# Altium footprint library Pin Connector.PcbLib: 7 footprints
Each footprint in its own frame and in the unit in brackets; x right, y up, seen from the top. Pads: shape width x height; smd on the part's side, far side on the other; paste and mask are expansions set on the pad; w line width, h text height; cw(c..) or ccw(c..) is an arc to the next point about the centre after c.
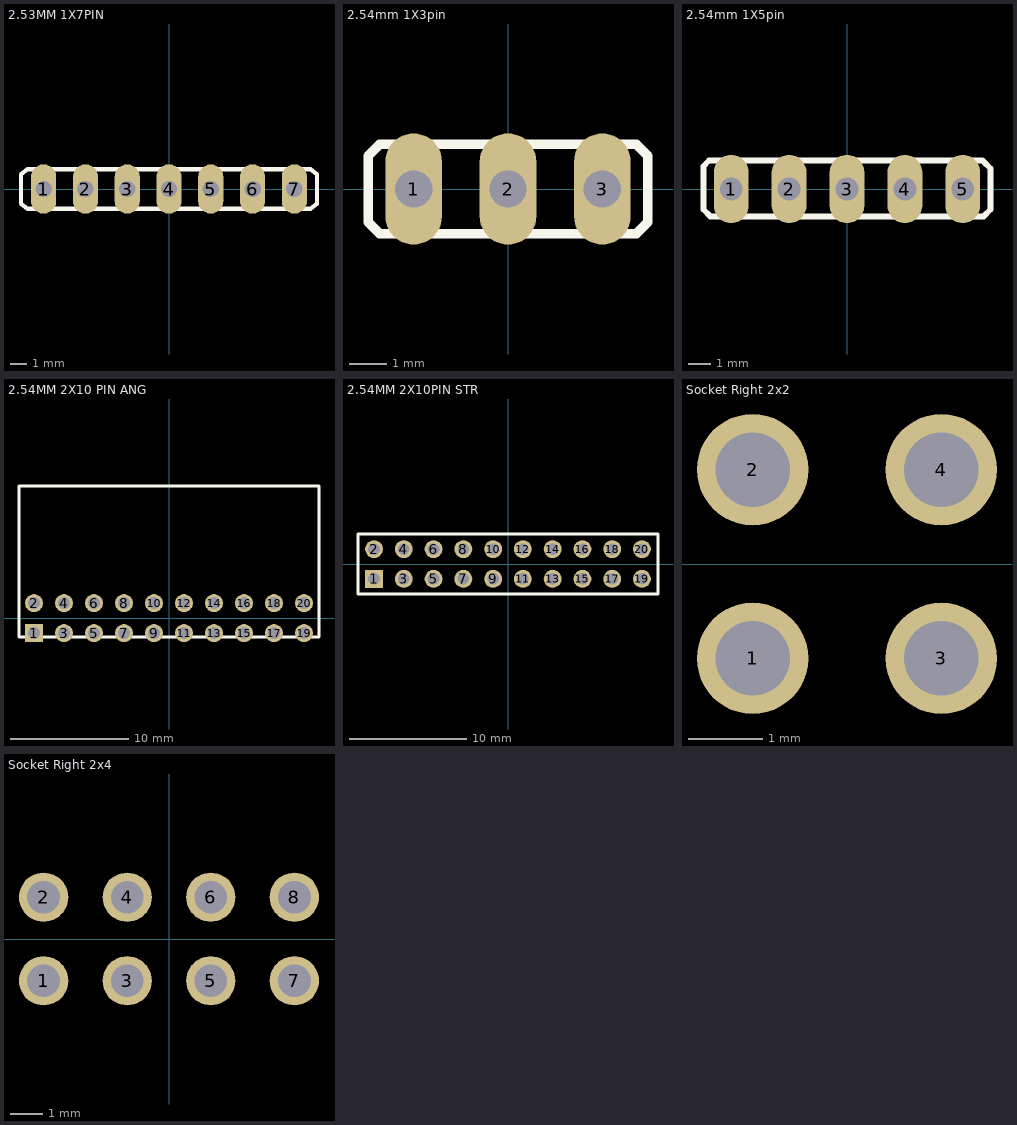
[diagram p0: the footprints below, top view; thin cyan lines are the x and y axes]

## 2.53MM 1X7PIN [mm]
pads (7):
  oval 1.524x3 hole 1: 1(-7.62,0) 2(-5.08,0) 3(-2.54,0) 4(0,0) 5(2.54,0) 6(5.08,0) 7(7.62,0)
Top Overlay:
  lines w0.254: -9,-0.9 -8.6,-1.2 8.6,-1.2 9,-0.9 9,0.9 8.6,1.2 -8.6,1.2 -9,0.9 -9,-0.9
3D body: height 8.38, standoff -2.54, extent -8.89,-1.275 8.89,1.265

## 2.54mm 1X3pin [mm]
pads (3):
  oval 1.524x3 hole 1: 1(-2.54,0) 2(0,0) 3(2.54,0)
Top Overlay:
  lines w0.254: -3.76,-0.9 -3.46,-1.2 3.46,-1.2 3.76,-0.9 3.76,0.9 3.46,1.2 -3.46,1.2 -3.76,0.9 -3.76,-0.9
3D body: height 8.38, standoff -2.54, extent -3.81,-1.3 3.81,1.24

## 2.54mm 1X5pin [mm]
pads (5):
  oval 1.524x3 hole 1: 1(-5.08,0) 2(-2.54,0) 3(0,0) 4(2.54,0) 5(5.08,0)
Top Overlay:
  lines w0.254: 5.95,1.25 -6.05,1.25 -6.3,1 -6.3,-0.9 -6,-1.2 6,-1.2 6.3,-0.9 6.3,0.9 6,1.2
3D body: height 8.38, standoff -2.54, extent -6.35,-1.27 6.35,1.27

## 2.54MM 2X10 PIN ANG [mil] "2.54MM 2X10 Pin"
pads (20):
  rect 60x60 hole 39.37: 1(-450,-50)
  round 60 hole 39.37: 2(-450,50) 3(-350,-50) 4(-350,50) 5(-250,-50) 6(-250,50) 7(-150,-50) 8(-150,50) 9(-50,-50) 10(-50,50) 11(50,-50) 12(50,50) 13(150,-50) 14(150,50) 15(250,-50) 16(250,50) 17(350,-50) 18(350,50) 19(450,-50) 20(450,50)
Top Overlay:
  lines w10: -500,-62.99 500,-62.99 500,440.94 -500,440.94 -500,-62.99
3D body: height 220.67, standoff -89.33, extent -500,-62.99 500,439.51

## 2.54MM 2X10PIN STR [mil]
pads (20):
  rect 60x60 hole 39.37: 1(-450,-50)
  round 60 hole 39.37: 2(-450,50) 3(-350,-50) 4(-350,50) 5(-250,-50) 6(-250,50) 7(-150,-50) 8(-150,50) 9(-50,-50) 10(-50,50) 11(50,-50) 12(50,50) 13(150,-50) 14(150,50) 15(250,-50) 16(250,50) 17(350,-50) 18(350,50) 19(450,-50) 20(450,50)
Top Overlay:
  lines w10: -503.94,-100 503.94,-100 503.94,100 -503.94,100 -503.94,-100
3D body: height 330, standoff -100, extent -499.41,-100 500.59,100

## Socket Right 2x2 [mm]
pads (4):
  round 1.5 hole 1 unplated: 1(-3.81,-1.27) 2(-3.81,1.27) 3(-1.27,-1.27) 4(-1.27,1.27)
3D body: height 5.1, standoff -3.1, extent -5.165,-1.5 0.165,11.1

## Socket Right 2x4 [mm]
pads (8):
  round 1.5 hole 1 unplated: 1(-3.81,-1.27) 2(-3.81,1.27) 3(-1.27,-1.27) 4(-1.27,1.27) 5(1.27,-1.27) 6(1.27,1.27) 7(3.81,-1.27) 8(3.81,1.27)
3D body: height 5.1, standoff -3.1, extent -5.205,-1.5 5.205,11.1